# Altium schematic symbol library EN_Probe_VR.SCHLIB: 14 symbols
Pins are listed as number, name and electrical type; pins without a type are passive.

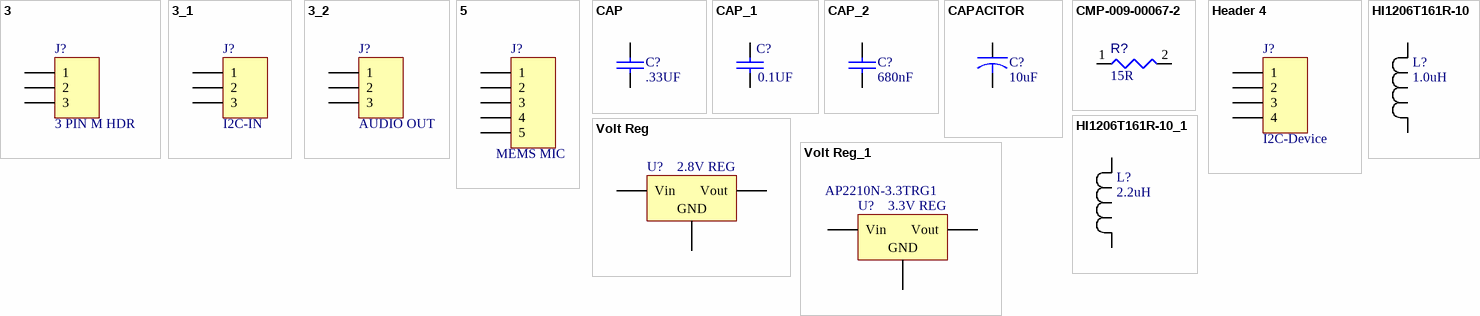
[diagram p0: symbols 3 to Volt Reg_1]

## 3
designator J?, comment 3 PIN M HDR
3 Positions Header, Unshrouded, Breakaway Connector 0.100" (2.54mm) Through Hole Gold; Manufacturer: Harwin Inc.; Manufacturer PN: M20-7820342; ID: 3; Vendor: Digikey; Vendor PN: 952-1783-ND; Part Type: Female Pin Header; Package: TH; Supplier 1: Digi-Key; Supplier Part Number 1: 952-1783-ND; Parameter 1: 952-1783-ND
footprint HDR1X3
pins: 1, 2, 3

## 3_1
designator J?, comment I2C-IN
3 Positions Header, Unshrouded, Breakaway Connector 0.100" (2.54mm) Through Hole Gold; Manufacturer: Harwin Inc.; Manufacturer PN: M20-9990345; ID: 3; Vendor: Digikey; Vendor PN: 952-2263-ND; Part Type: Male Pin Header; Package: TH; Supplier 1: Digi-Key; Supplier Part Number 1: 952-1782-ND
footprint 5vPWR HDR
pins: 1, 2, 3

## 3_2
designator J?, comment AUDIO OUT
3 Positions Header, Unshrouded, Breakaway Connector 0.100" (2.54mm) Through Hole Gold; Manufacturer: Harwin Inc.; Manufacturer PN: M20-9990345; ID: 3; Vendor: Digikey; Vendor PN: 952-2263-ND; Part Type: Male Pin Header; Package: TH; Supplier 1: Digi-Key; Supplier Part Number 1: 952-1782-ND
footprint 5vPWR HDR
pins: 1, 2, 3

## 5
designator J?, comment MEMS MIC
CONN HEADER VERT 5POS 2.54MM; Manufacturer: Harwin Inc.; Manufacturer PN: 61300511121; ID: 5; Vendor: Digikey; Vendor PN: 952-2246-ND; Part Type: Male Pin Header; Package: TH; Supplier 1: Digi-Key; Supplier Part Number 1: 732-5318-ND
footprint HDR1X5
pins: 1, 2, 3, 4, 5

## CAP
designator C?, comment .33UF
CAP CER 0.33UF 25V X7R 0805; Manufacturer PN: CL21B334KAFNNNG; Vendor: DIGIKEY; Vendor PN: 1276-6479-1-ND; Supplier 1: Digi-Key; Supplier Part Number 1: 1276-6479-1-ND
footprint 1206
footprint 0805
pins: 1, 2

## CAP_1
designator C?, comment 0.1UF
CAP CER 0.1UF 50V X7R 0603; Part Field 1: 0; Part Field 10: 1000u; Manufacturer PN: C0603C104M5RACTU; Vendor: DIGIKEY; Vendor PN: 399-7845-1-ND; Part Field 5: 1; Part Field 6: 0; Part Field 7: 1u; Part Field 8: 1u; Part Field 9: 500u; Manufacturer Part Number 1: C0603C104M5RACTU; Supplier Part Number 1: 399-7845-2-ND
footprint 0805
footprint 0603
pins: 1, 2

## CAP_2
designator C?, comment 680nF
CAP CER 0.33UF 25V X7R 0805; Manufacturer PN: CL21B334KAFNNNG; Vendor: DIGIKEY; Vendor PN: 1276-6479-1-ND; Supplier 1: Digi-Key; Supplier Part Number 1: 1276-6479-1-ND
footprint 1206
footprint 0805
pins: 1, 2

## CAPACITOR
designator C?, comment 10uF
CAP CER 10UF 25V X5R 0805; Manufacturer Part Number 1: GRM21BR61E106MA73L; Vendor: DIGIKEY; Vendor PN: 490-10748-1-ND; Supplier Part Number 1: 490-10748-1-ND
footprint 0805
pins: 1, 2

## CMP-009-00067-2
designator R?, comment value 15R  (hidden comment: 10R2F)
10R 0.063W 1% 0402 (1005 Metric)  SMD; Power: 63mW; Case/Package: 0402; Tolerance: 1%; Mounting Technology: SMT; Pins: 2
footprint RESC0402(1005)_L (Chip Resistor, Body 1.0x0.5mm, IPC High Density)
pins: 1, 2
1 alternate drawing of the same symbol

## Header 4
designator J?, comment I2C-Device
CONN HEADER VERT 4POS .100 TIN; Manufacturer PN: 640454-4; Manufacturer: TE Connectivity AMP Connectors; Vendor PN: A19431-ND; LatestRevisionDate: 17-Jul-2002; LatestRevisionNote: Re-released for DXP Platform.; Publisher: Altium Limited; Supplier 1: Digi-Key; Supplier Part Number 1: S1012EC-04-ND
footprint HDR1X4 (Connector; Header; 4 Position)
signal-integrity model Connector
pins: 1, 2, 3, 4

## HI1206T161R-10
designator L?, comment 1.0uH
FERRITE BEAD 160 OHM 1206 1LN; Manufacturer_Part_Number: HI1206T161R-10; Vendor: Laird; Built_By: EMA_Cory; SourceLibrary: Laird_2019-12-03; Type: DEV; Copyright: Copyright (C) 2018 Accelerated Designs. All rights reserved; RefDes: RefDes; Supplier 1: Digi-Key; Supplier Part Number 1: 240-2411-1-ND
footprint 1206
pins: 1, 2

## HI1206T161R-10_1
designator L?, comment 2.2uH
FERRITE BEAD 160 OHM 1206 1LN; Manufacturer_Part_Number: HI1206T161R-10; Vendor: Laird; Built_By: EMA_Cory; SourceLibrary: Laird_2019-12-03; Type: DEV; Copyright: Copyright (C) 2018 Accelerated Designs. All rights reserved; RefDes: RefDes; Supplier 1: Digi-Key; Supplier Part Number 1: 240-2411-1-ND
footprint 1206
pins: 1, 2

## Volt Reg
designator U?, comment 2.8V REG
IC REG LINEAR 2.8V 300MA SOT23-3; Manufacturer Part Number 1: AP2210N-2.8TRE1; Published: 24-Mar-1999; Publisher: Altium Limited; Supplier 1: Digi-Key; Supplier Part Number 1: AP2210N-2.8TRE1-ND; Supplier 2: Digi-Key; Supplier Part Number 2: MC78M12CDTRKGOSCT-ND
footprint TO254P1510-3_4N (D2-PAK, 4-Leads, Body 8.8x10.4mm, Pitch 2.54mm, Lead Span 15.1mm, IPC Medium Density)
footprint TO254P1510-3_4L (D2-PAK, 4-Leads, Body 8.8x10.4mm, Pitch 2.54mm, Lead Span 15.1mm, IPC High Density)
footprint TO254P1510-3_4M (D2-PAK, 4-Leads, Body 8.8x10.4mm, Pitch 2.54mm, Lead Span 15.1mm, IPC Low Density)
footprint TO-220
footprint SOT23-3 (SOT23, 3-Leads, Body 3.0x2.6mm (max), Pitch 0.95mm, IPC)
pins: 1 GND, 2 Vout, 3 Vin

## Volt Reg_1
designator U?, comment 3.3V REG  Supplier Part Number 1: AP2210N-3.3TRG1
IC REG LINEAR 3.3V 300MA SOT23-3; Published: 24-Mar-1999; Publisher: Altium Limited; Manufacturer Part Number 1: AP2210N-3.3TRG1; Supplier 1: Future Electronics
footprint TO254P1510-3_4N (D2-PAK, 4-Leads, Body 8.8x10.4mm, Pitch 2.54mm, Lead Span 15.1mm, IPC Medium Density)
footprint TO254P1510-3_4L (D2-PAK, 4-Leads, Body 8.8x10.4mm, Pitch 2.54mm, Lead Span 15.1mm, IPC High Density)
footprint TO254P1510-3_4M (D2-PAK, 4-Leads, Body 8.8x10.4mm, Pitch 2.54mm, Lead Span 15.1mm, IPC Low Density)
footprint TO-220
footprint SOT23-3 (SOT23, 3-Leads, Body 3.0x2.6mm (max), Pitch 0.95mm, IPC)
pins: 1 GND, 2 Vout, 3 Vin